# Altium footprint library LCR.PcbLib: 35 footprints (part 3 of 3)
Each footprint in its own frame and in the unit in brackets; x right, y up, seen from the top. Pads: shape width x height; smd on the part's side, far side on the other; paste and mask are expansions set on the pad; w line width, h text height; cw(c..) or ccw(c..) is an arc to the next point about the centre after c.
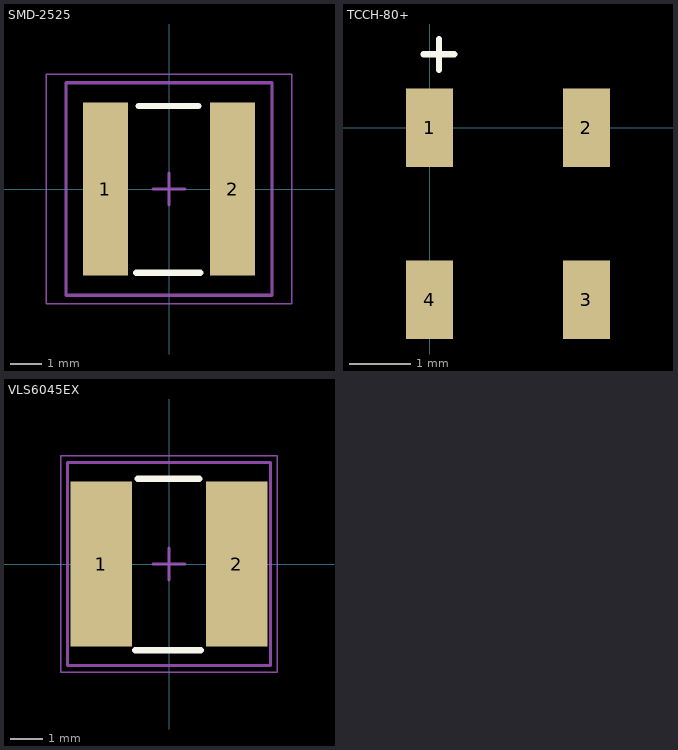
[diagram p2: the footprints below, top view; thin cyan lines are the x and y axes]

## SMD-2525 [mm] "XAL6060-153MEB Inductor"
height 6.1
pads (2):
  rect 1.43x5.5 smd: 1(-2.02,0) 2(2.02,0)
Top Overlay:
  lines w0.2: -1.041,-2.667 0.991,-2.667 ; -0.965,2.642 0.94,2.642
Mechanical 13:
  lines w0.1: -3.28,-3.38 3.28,-3.38 3.28,3.38 -3.28,3.38 -3.28,-3.38
Mechanical 15:
  lines w0.05: -3.9,-3.65 3.9,-3.65 3.9,3.65 -3.9,3.65 -3.9,-3.65
  lines w0.1: -0.5,0 0.5,0 ; 0,-0.5 0,0.5
3D body: height 6.1, standoff 0, extent 2.03,-3.38 3.28,3.38
3D body: height 6.1, standoff 0, extent -3.28,-3.38 -2.03,3.38
3D body: height 6.1, standoff 0, extent -2.03,-3.38 2.03,3.38

## TCCH-80+ [mm] "GU1604 Case"
pads (4):
  rect 0.76x1.27 smd: 1(0,0) 2(2.54,0) 3(2.54,-2.79) 4(0,-2.79)
Top Overlay:
  lines w0.1: -0.102,1.194 0.398,1.194 ; 0.152,0.94 0.152,1.44
3D body "step_temp.STEP": height 3.81, standoff 0, extent -0.635,-3.302 3.175,0.508

## VLS6045EX [mm] "6.0mm x 6.0mm SMD"
height 4.5
pads (2):
  rect 1.9x5.1 smd mask+0.051: 1(-2.1,0) 2(2.1,0)
Top Overlay:
  lines w0.2: -1.041,-2.667 0.991,-2.667 ; -0.965,2.642 0.94,2.642
Mechanical 13:
  lines w0.1: -3.15,-3.15 -3.15,3.15 3.15,3.15 3.15,-3.15 -3.15,-3.15
Mechanical 15:
  lines w0.05: -3.35,-3.35 3.35,-3.35 3.35,3.35 -3.35,3.35 -3.35,-3.35
  lines w0.1: -0.5,0 0.5,0 ; 0,-0.5 0,0.5
3D body: height 6.1, standoff 0, extent 2.03,-3.15 3.15,3.15
3D body: height 6.1, standoff 0, extent -3.15,-3.15 -2.03,3.15
3D body: height 6.1, standoff 0, extent -2.03,-3.15 2.03,3.15